# Altium schematic symbol library 6_Pin_ScrewTerm.SchLib: 1 symbol
Pins are listed as number, name and electrical type; pins without a type are passive.

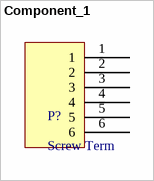
[diagram p0: symbol Component_1]

## Component_1
designator P?, comment Screw Term
CONN TERM BLOCK 6POS 5MM BLACK; Supplier: Digikey; Supplier Part Number: 1297-1112-2-ND
footprint 6_Pin_ScrewTerm
pins: 1, 2, 3, 4, 5, 6